# Altium schematic symbol library 2450FB15A050E.SchLib: 2 symbols
Pins are listed as number, name and electrical type; pins without a type are passive.

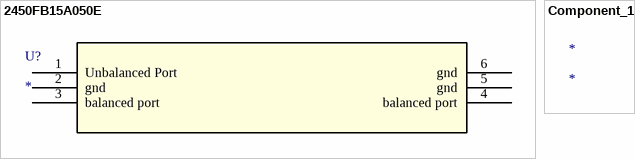
[diagram p0: symbols 2450FB15A050E to Component_1]

## 2450FB15A050E
designator U?
No Description Available; Mfr_Name: Johanson Technology; RefDes: RefDes; Type: Type
footprint 2450FB15A050E_JOT
pins: 1 Unbalanced Port, 2 gnd, 3 balanced port, 4 balanced port, 5 gnd, 6 gnd

## Component_1
designator *